# EAGLE library part LQFP_48 (library STM32L083)
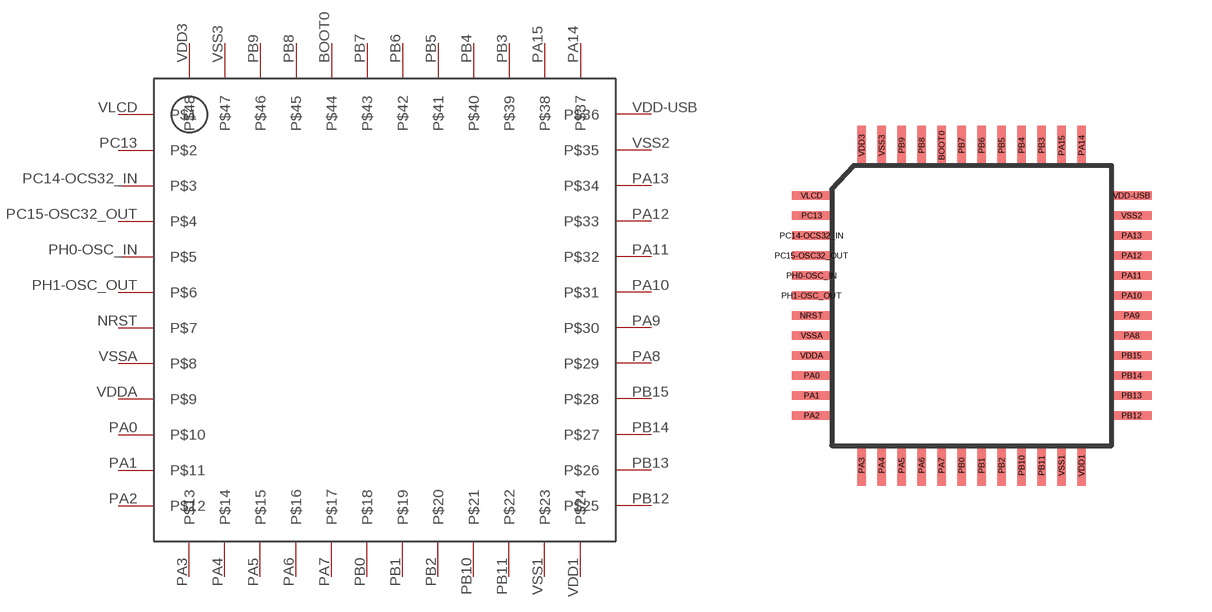
[diagram p0: symbol with the pads of STM32L083CZ; footprint STM32L083CZ]

Designator prefix -

## LQFP_48  [STM32L083CZ]
BOOT0  P$44
NRST  P$7
PA0  P$10
PA1  P$11
PA2  P$12
PA3  P$13
PA4  P$14
PA5  P$15
PA6  P$16
PA7  P$17
PA8  P$29
PA9  P$30
PA10  P$31
PA11  P$32
PA12  P$33
PA13  P$34
PA14  P$37
PA15  P$38
PB0  P$18
PB1  P$19
PB2  P$20
PB3  P$39
PB4  P$40
PB5  P$41
PB6  P$42
PB7  P$43
PB8  P$45
PB9  P$46
PB10  P$21
PB11  P$22
PB12  P$25
PB13  P$26
PB14  P$27
PB15  P$28
PC13  P$2
PC14-OCS32_IN  P$3
PC15-OSC32_OUT  P$4
PH0-OSC_IN  P$5
PH1-OSC_OUT  P$6
VDD1  P$24
VDD3  P$48
VDD-USB  P$36
VDDA  P$9
VLCD  P$1
VSS1  P$23
VSS2  P$35
VSS3  P$47
VSSA  P$8

## Footprint STM32L083CZ (pad centres in mm)
smd 0.22 x 1: BOOT0 2.75,7.5; PA3 0.75,-0.5; PA4 1.25,-0.5; PA5 1.75,-0.5; PA6 2.25,-0.5; PA7 2.75,-0.5; PA14 6.25,7.5; PA15 5.75,7.5; PB0 3.25,-0.5; PB1 3.75,-0.5; PB2 4.25,-0.5; PB3 5.25,7.5; PB4 4.75,7.5; PB5 4.25,7.5; PB6 3.75,7.5; PB7 3.25,7.5; PB8 2.25,7.5; PB9 1.75,7.5; PB10 4.75,-0.5; PB11 5.25,-0.5; VDD1 6.25,-0.5; VDD3 0.75,7.5; VSS1 5.75,-0.5; VSS3 1.25,7.5
smd 1 x 0.22: NRST -0.5,3.25; PA0 -0.5,1.75; PA1 -0.5,1.25; PA2 -0.5,0.75; PA8 7.5,2.75; PA9 7.5,3.25; PA10 7.5,3.75; PA11 7.5,4.25; PA12 7.5,4.75; PA13 7.5,5.25; PB12 7.5,0.75; PB13 7.5,1.25; PB14 7.5,1.75; PB15 7.5,2.25; PC13 -0.5,5.75; PC14-OCS32_IN -0.5,5.25; PC15-OSC32_OUT -0.5,4.75; PH0-OSC_IN -0.5,4.25; PH1-OSC_OUT -0.5,3.75; VDD-USB 7.5,6.25; VDDA -0.5,2.25; VLCD -0.5,6.25; VSS2 7.5,5.75; VSSA -0.5,2.75